# Altium schematic symbol library filter.SchLib: 1 symbol
Pins are listed as number, name and electrical type; pins without a type are passive.

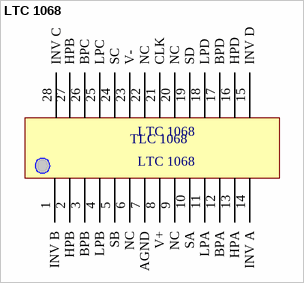
[diagram p0: symbol LTC 1068]

## LTC 1068
designator LTC 1068
pins: 1 INV B, 2 HPB, 3 BPB, 4 LPB, 5 SB, 6 NC, 7 AGND, 8 V+, 9 NC, 10 SA, 11 LPA, 12 BPA, 13 HPA, 14 INV A, 15 INV D, 16 HPD, 17 BPD, 18 LPD, 19 SD, 20 NC, 21 CLK, 22 NC, 23 V-, 24 SC, 25 LPC, 26 BPC, 27 HPB, 28 INV C
text: TLC 1068